# Altium footprint library PCA9518A.PcbLib: 3 footprints
Each footprint in its own frame and in the unit in brackets; x right, y up, seen from the top. Pads: shape width x height; smd on the part's side, far side on the other; paste and mask are expansions set on the pad; w line width, h text height; cw(c..) or ccw(c..) is an arc to the next point about the centre after c.
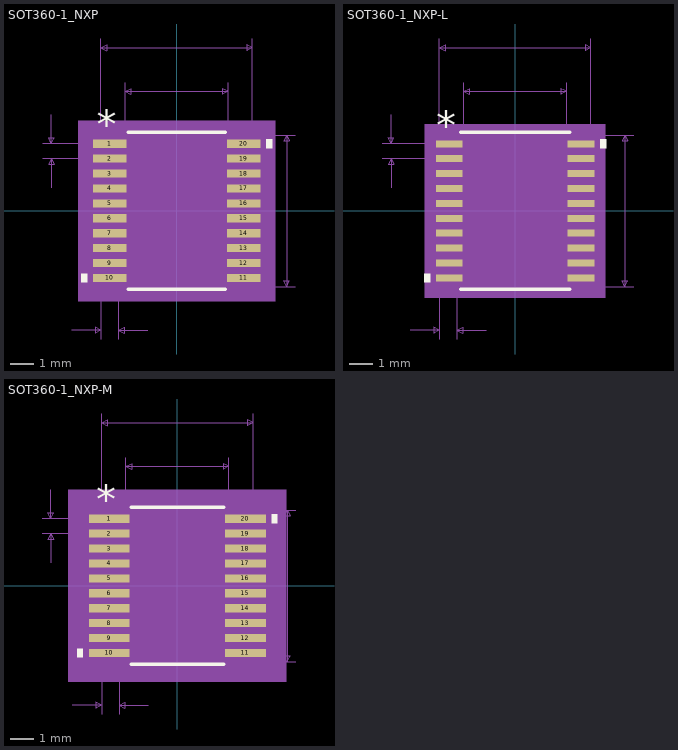
[diagram p0: the footprints below, top view; thin cyan lines are the x and y axes]

## SOT360-1_NXP [mil]
pads (20):
  rect 58x14 smd paste+0 mask+0: 1(-115,115.16) 2(-115,89.57) 3(-115,63.98) 4(-115,38.39) 5(-115,12.8) 6(-115,-12.8) 7(-115,-38.39) 8(-115,-63.98) 9(-115,-89.57) 10(-115,-115.16) 11(115,-115.16) 12(115,-89.57) 13(115,-63.98) 14(115,-38.39) 15(115,-12.8) 16(115,12.8) 17(115,38.39) 18(115,63.98) 19(115,89.57) 20(115,115.16)
Top Overlay:
  region: -154,-107.66 -164,-107.66 -164,-122.66 -154,-122.66
  region: 154,122.66 164,122.66 164,107.66 154,107.66
  lines w6: -83.42,-135 83.42,-135 ; -83.42,135 83.42,135
  text "*" at -137.5,124.16 h50
Mechanical 5:
  region: 169,-155 -169,-155 -169,155 169,155
Mechanical 7:
  lines w1: -230,89.57 -115,89.57 ; -230,115.16 -115,115.16 ; -215,39.57 -215,89.57 ; -215,165.16 -215,115.16 ; -180,-205 -130,-205 ; -130,-220 -130,0 -130,295 ; -100,-220 -100,0 ; -88.5,0 -88.5,220 ; -50,-205 -100,-205 ; 0,-130 203.5,-130 ; 0,130 203.5,130 ; 88.5,0 88.5,220 ; 130,0 130,295 ; -215,89.57 -220,79.57 -210,79.57 -215,89.57 ; -215,115.16 -220,125.16 -210,125.16 -215,115.16 ; -130,-205 -140,-200 -140,-210 -130,-205 ; -130,280 130,280 ; -130,280 -120,285 -120,275 -130,280 ; -100,-205 -90,-200 -90,-210 -100,-205 ; -88.5,205 88.5,205 ; -88.5,205 -78.5,210 -78.5,200 -88.5,205 ; 88.5,205 78.5,210 78.5,200 88.5,205 ; 130,280 120,285 120,275 130,280 ; 188.5,-130 188.5,130 ; 188.5,-130 183.5,-120 193.5,-120 188.5,-130 ; 188.5,130 183.5,120 193.5,120 188.5,130
  text "Default Padstyle: RX58Y14D0T" at -350,-330 h50
  text "Pin One Padstyle: RX58Y14D0T" at -350,-390 h50
  text "Alt 1 Padstyle: OX60Y90D30P" at -337.5,-570 h50
  text "Alt 2 Padstyle: OX90Y60D30P" at -337.5,-630 h50
  text "0.177in/4.496mm" at -93.75,225 h25
  text "0.26in/6.604mm" at -87.5,300 h25
  text "0.26in/6.604mm" at 208.5,-12.5 h25
  text "0.026in/0.65mm" at -410,89.86 h25
  text "0.03in/0.762mm" at -202.5,-250 h25
Mechanical 13:
  lines w0: -12,130 ccw(c0,130) 12,130
  lines w1: -130,-121.16 -130,-109.16 -88.5,-109.16 -88.5,-121.16 -130,-121.16 ; -130,-95.57 -130,-83.57 -88.5,-83.57 -88.5,-95.57 -130,-95.57 ; -130,-69.98 -130,-57.98 -88.5,-57.98 -88.5,-69.98 -130,-69.98 ; -130,-44.39 -130,-32.39 -88.5,-32.39 -88.5,-44.39 -130,-44.39 ; -130,-18.8 -130,-6.8 -88.5,-6.8 -88.5,-18.8 -130,-18.8 ; -130,6.8 -130,18.8 -88.5,18.8 -88.5,6.8 -130,6.8 ; -130,32.39 -130,44.39 -88.5,44.39 -88.5,32.39 -130,32.39 ; -130,57.98 -130,69.98 -88.5,69.98 -88.5,57.98 -130,57.98 ; -130,83.57 -130,95.57 -88.5,95.57 -88.5,83.57 -130,83.57 ; -130,109.16 -130,121.16 -88.5,121.16 -88.5,109.16 -130,109.16 ; -88.5,-130 88.5,-130 88.5,130 -88.5,130 -88.5,-130 ; 88.5,-121.16 88.5,-109.16 130,-109.16 130,-121.16 88.5,-121.16 ; 88.5,-95.57 88.5,-83.57 130,-83.57 130,-95.57 88.5,-95.57 ; 88.5,-69.98 88.5,-57.98 130,-57.98 130,-69.98 88.5,-69.98 ; 88.5,-44.39 88.5,-32.39 130,-32.39 130,-44.39 88.5,-44.39 ; 88.5,-18.8 88.5,-6.8 130,-6.8 130,-18.8 88.5,-18.8 ; 88.5,6.8 88.5,18.8 130,18.8 130,6.8 88.5,6.8 ; 88.5,32.39 88.5,44.39 130,44.39 130,32.39 88.5,32.39 ; 88.5,57.98 88.5,69.98 130,69.98 130,57.98 88.5,57.98 ; 88.5,83.57 88.5,95.57 130,95.57 130,83.57 88.5,83.57 ; 88.5,109.16 88.5,121.16 130,121.16 130,109.16 88.5,109.16
  text "*" at -86,77 h50
Mechanical 15:
  region: -98.5,-132.16 -154,-132.16 -154,132.16 -98.5,132.16 -98.5,140 98.5,140 98.5,132.16 154,132.16 154,-132.16 98.5,-132.16 98.5,-140 -98.5,-140
  lines w6: -154,-132.16 -154,132.16 -98.5,132.16 -98.5,140 98.5,140 98.5,132.16 154,132.16 154,-132.16 98.5,-132.16 98.5,-140 -98.5,-140 -98.5,-132.16 -154,-132.16
3D body: height 10, standoff 0, extent 0,0 10,10

## SOT360-1_NXP-L [mil]
pads (20):
  rect 46x12 smd paste+0 mask+0: 1(-113,115.16) 2(-113,89.57) 3(-113,63.98) 4(-113,38.39) 5(-113,12.8) 6(-113,-12.8) 7(-113,-38.39) 8(-113,-63.98) 9(-113,-89.57) 10(-113,-115.16) 11(113,-115.16) 12(113,-89.57) 13(113,-63.98) 14(113,-38.39) 15(113,-12.8) 16(113,12.8) 17(113,38.39) 18(113,63.98) 19(113,89.57) 20(113,115.16)
Top Overlay:
  region: -146,-107.66 -156,-107.66 -156,-122.66 -146,-122.66
  region: 146,122.66 156,122.66 156,107.66 146,107.66
  lines w6: -93.5,-135 93.5,-135 ; -93.5,135 93.5,135
  text "*" at -135.5,122.16 h50
Mechanical 5:
  region: 155,-149 -155,-149 -155,149 155,149
Mechanical 7:
  lines w1: -228,89.57 -113,89.57 ; -228,115.16 -113,115.16 ; -213,39.57 -213,89.57 ; -213,165.16 -213,115.16 ; -180,-205 -130,-205 ; -130,-220 -130,0 -130,295 ; -100,-220 -100,0 ; -88.5,0 -88.5,220 ; -50,-205 -100,-205 ; 0,-130 203.5,-130 ; 0,130 203.5,130 ; 88.5,0 88.5,220 ; 130,0 130,295 ; -213,89.57 -218,79.57 -208,79.57 -213,89.57 ; -213,115.16 -218,125.16 -208,125.16 -213,115.16 ; -130,-205 -140,-200 -140,-210 -130,-205 ; -130,280 130,280 ; -130,280 -120,285 -120,275 -130,280 ; -100,-205 -90,-200 -90,-210 -100,-205 ; -88.5,205 88.5,205 ; -88.5,205 -78.5,210 -78.5,200 -88.5,205 ; 88.5,205 78.5,210 78.5,200 88.5,205 ; 130,280 120,285 120,275 130,280 ; 188.5,-130 188.5,130 ; 188.5,-130 183.5,-120 193.5,-120 188.5,-130 ; 188.5,130 183.5,120 193.5,120 188.5,130
  text "Default Padstyle: RX46Y12D0T" at -350,-330 h50
  text "Pin One Padstyle: RX46Y12D0T" at -350,-390 h50
  text "Alt 1 Padstyle: OX60Y90D30P" at -337.5,-570 h50
  text "Alt 2 Padstyle: OX90Y60D30P" at -337.5,-630 h50
  text "0.177in/4.496mm" at -93.75,225 h25
  text "0.26in/6.604mm" at -87.5,300 h25
  text "0.26in/6.604mm" at 208.5,-12.5 h25
  text "0.026in/0.65mm" at -408,89.86 h25
  text "0.03in/0.762mm" at -202.5,-250 h25
Mechanical 13:
  lines w0: -12,130 ccw(c0,130) 12,130
  lines w1: -130,-121.16 -130,-109.16 -88.5,-109.16 -88.5,-121.16 -130,-121.16 ; -130,-95.57 -130,-83.57 -88.5,-83.57 -88.5,-95.57 -130,-95.57 ; -130,-69.98 -130,-57.98 -88.5,-57.98 -88.5,-69.98 -130,-69.98 ; -130,-44.39 -130,-32.39 -88.5,-32.39 -88.5,-44.39 -130,-44.39 ; -130,-18.8 -130,-6.8 -88.5,-6.8 -88.5,-18.8 -130,-18.8 ; -130,6.8 -130,18.8 -88.5,18.8 -88.5,6.8 -130,6.8 ; -130,32.39 -130,44.39 -88.5,44.39 -88.5,32.39 -130,32.39 ; -130,57.98 -130,69.98 -88.5,69.98 -88.5,57.98 -130,57.98 ; -130,83.57 -130,95.57 -88.5,95.57 -88.5,83.57 -130,83.57 ; -130,109.16 -130,121.16 -88.5,121.16 -88.5,109.16 -130,109.16 ; -88.5,-130 88.5,-130 88.5,130 -88.5,130 -88.5,-130 ; 88.5,-121.16 88.5,-109.16 130,-109.16 130,-121.16 88.5,-121.16 ; 88.5,-95.57 88.5,-83.57 130,-83.57 130,-95.57 88.5,-95.57 ; 88.5,-69.98 88.5,-57.98 130,-57.98 130,-69.98 88.5,-69.98 ; 88.5,-44.39 88.5,-32.39 130,-32.39 130,-44.39 88.5,-44.39 ; 88.5,-18.8 88.5,-6.8 130,-6.8 130,-18.8 88.5,-18.8 ; 88.5,6.8 88.5,18.8 130,18.8 130,6.8 88.5,6.8 ; 88.5,32.39 88.5,44.39 130,44.39 130,32.39 88.5,32.39 ; 88.5,57.98 88.5,69.98 130,69.98 130,57.98 88.5,57.98 ; 88.5,83.57 88.5,95.57 130,95.57 130,83.57 88.5,83.57 ; 88.5,109.16 88.5,121.16 130,121.16 130,109.16 88.5,109.16
  text "*" at -86,77 h50
Mechanical 15:
  region: -92.5,-125.16 -140,-125.16 -140,125.16 -92.5,125.16 -92.5,134 92.5,134 92.5,125.16 140,125.16 140,-125.16 92.5,-125.16 92.5,-134 -92.5,-134
  lines w6: -140,-125.16 -140,125.16 -92.5,125.16 -92.5,134 92.5,134 92.5,125.16 140,125.16 140,-125.16 92.5,-125.16 92.5,-134 -92.5,-134 -92.5,-125.16 -140,-125.16
3D body: height 10, standoff 0, extent 0,0 10,10

## SOT360-1_NXP-M [mil]
pads (20):
  rect 70x14 smd paste+0 mask+0: 1(-117,115.16) 2(-117,89.57) 3(-117,63.98) 4(-117,38.39) 5(-117,12.8) 6(-117,-12.8) 7(-117,-38.39) 8(-117,-63.98) 9(-117,-89.57) 10(-117,-115.16) 11(117,-115.16) 12(117,-89.57) 13(117,-63.98) 14(117,-38.39) 15(117,-12.8) 16(117,12.8) 17(117,38.39) 18(117,63.98) 19(117,89.57) 20(117,115.16)
Top Overlay:
  region: -162,-107.66 -172,-107.66 -172,-122.66 -162,-122.66
  region: 162,122.66 172,122.66 172,107.66 162,107.66
  lines w6: -79.42,-135 79.42,-135 ; -79.42,135 79.42,135
  text "*" at -139.5,124.16 h50
Mechanical 5:
  region: 187,-165 -187,-165 -187,165 187,165
Mechanical 7:
  lines w1: -232,89.57 -117,89.57 ; -232,115.16 -117,115.16 ; -217,39.57 -217,89.57 ; -217,165.16 -217,115.16 ; -180,-205 -130,-205 ; -130,-220 -130,0 -130,295 ; -100,-220 -100,0 ; -88.5,0 -88.5,220 ; -50,-205 -100,-205 ; 0,-130 203.5,-130 ; 0,130 203.5,130 ; 88.5,0 88.5,220 ; 130,0 130,295 ; -217,89.57 -222,79.57 -212,79.57 -217,89.57 ; -217,115.16 -222,125.16 -212,125.16 -217,115.16 ; -130,-205 -140,-200 -140,-210 -130,-205 ; -130,280 130,280 ; -130,280 -120,285 -120,275 -130,280 ; -100,-205 -90,-200 -90,-210 -100,-205 ; -88.5,205 88.5,205 ; -88.5,205 -78.5,210 -78.5,200 -88.5,205 ; 88.5,205 78.5,210 78.5,200 88.5,205 ; 130,280 120,285 120,275 130,280 ; 188.5,-130 188.5,130 ; 188.5,-130 183.5,-120 193.5,-120 188.5,-130 ; 188.5,130 183.5,120 193.5,120 188.5,130
  text "Default Padstyle: RX70Y14D0T" at -350,-330 h50
  text "Pin One Padstyle: RX70Y14D0T" at -350,-390 h50
  text "Alt 1 Padstyle: OX60Y90D30P" at -337.5,-570 h50
  text "Alt 2 Padstyle: OX90Y60D30P" at -337.5,-630 h50
  text "0.177in/4.496mm" at -93.75,225 h25
  text "0.26in/6.604mm" at -87.5,300 h25
  text "0.26in/6.604mm" at 208.5,-12.5 h25
  text "0.026in/0.65mm" at -412,89.86 h25
  text "0.03in/0.762mm" at -202.5,-250 h25
Mechanical 13:
  lines w0: -12,130 ccw(c0,130) 12,130
  lines w1: -130,-121.16 -130,-109.16 -88.5,-109.16 -88.5,-121.16 -130,-121.16 ; -130,-95.57 -130,-83.57 -88.5,-83.57 -88.5,-95.57 -130,-95.57 ; -130,-69.98 -130,-57.98 -88.5,-57.98 -88.5,-69.98 -130,-69.98 ; -130,-44.39 -130,-32.39 -88.5,-32.39 -88.5,-44.39 -130,-44.39 ; -130,-18.8 -130,-6.8 -88.5,-6.8 -88.5,-18.8 -130,-18.8 ; -130,6.8 -130,18.8 -88.5,18.8 -88.5,6.8 -130,6.8 ; -130,32.39 -130,44.39 -88.5,44.39 -88.5,32.39 -130,32.39 ; -130,57.98 -130,69.98 -88.5,69.98 -88.5,57.98 -130,57.98 ; -130,83.57 -130,95.57 -88.5,95.57 -88.5,83.57 -130,83.57 ; -130,109.16 -130,121.16 -88.5,121.16 -88.5,109.16 -130,109.16 ; -88.5,-130 88.5,-130 88.5,130 -88.5,130 -88.5,-130 ; 88.5,-121.16 88.5,-109.16 130,-109.16 130,-121.16 88.5,-121.16 ; 88.5,-95.57 88.5,-83.57 130,-83.57 130,-95.57 88.5,-95.57 ; 88.5,-69.98 88.5,-57.98 130,-57.98 130,-69.98 88.5,-69.98 ; 88.5,-44.39 88.5,-32.39 130,-32.39 130,-44.39 88.5,-44.39 ; 88.5,-18.8 88.5,-6.8 130,-6.8 130,-18.8 88.5,-18.8 ; 88.5,6.8 88.5,18.8 130,18.8 130,6.8 88.5,6.8 ; 88.5,32.39 88.5,44.39 130,44.39 130,32.39 88.5,32.39 ; 88.5,57.98 88.5,69.98 130,69.98 130,57.98 88.5,57.98 ; 88.5,83.57 88.5,95.57 130,95.57 130,83.57 88.5,83.57 ; 88.5,109.16 88.5,121.16 130,121.16 130,109.16 88.5,109.16
  text "*" at -86,77 h50
Mechanical 15:
  region: -108.5,-142.16 -172,-142.16 -172,142.16 -108.5,142.16 -108.5,150 108.5,150 108.5,142.16 172,142.16 172,-142.16 108.5,-142.16 108.5,-150 -108.5,-150
  lines w6: -172,-142.16 -172,142.16 -108.5,142.16 -108.5,150 108.5,150 108.5,142.16 172,142.16 172,-142.16 108.5,-142.16 108.5,-150 -108.5,-150 -108.5,-142.16 -172,-142.16
3D body: height 10, standoff 0, extent 0,0 10,10